# Altium schematic symbol library TMR2_SYM.SchLib: 1 symbol
Pins are listed as number, name and electrical type; pins without a type are passive.

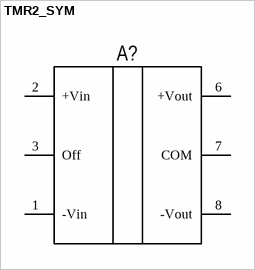
[diagram p0: symbol TMR2_SYM]

## TMR2_SYM
designator A?  (value not drawn)
pins: 1 -Vin (power), 2 +Vin (power), 3 Off (power), 6 +Vout (power), 7 COM (power), 8 -Vout (power)